# EAGLE library part MCU,PIC32MZ,TQFP-100 (library QuantumOptics)
Microchip PIC32MZ, 32-bit MCU with e'net, USB, FPU, 100-pin pinout such as PIC32MZ1024EFE100-I/PF.
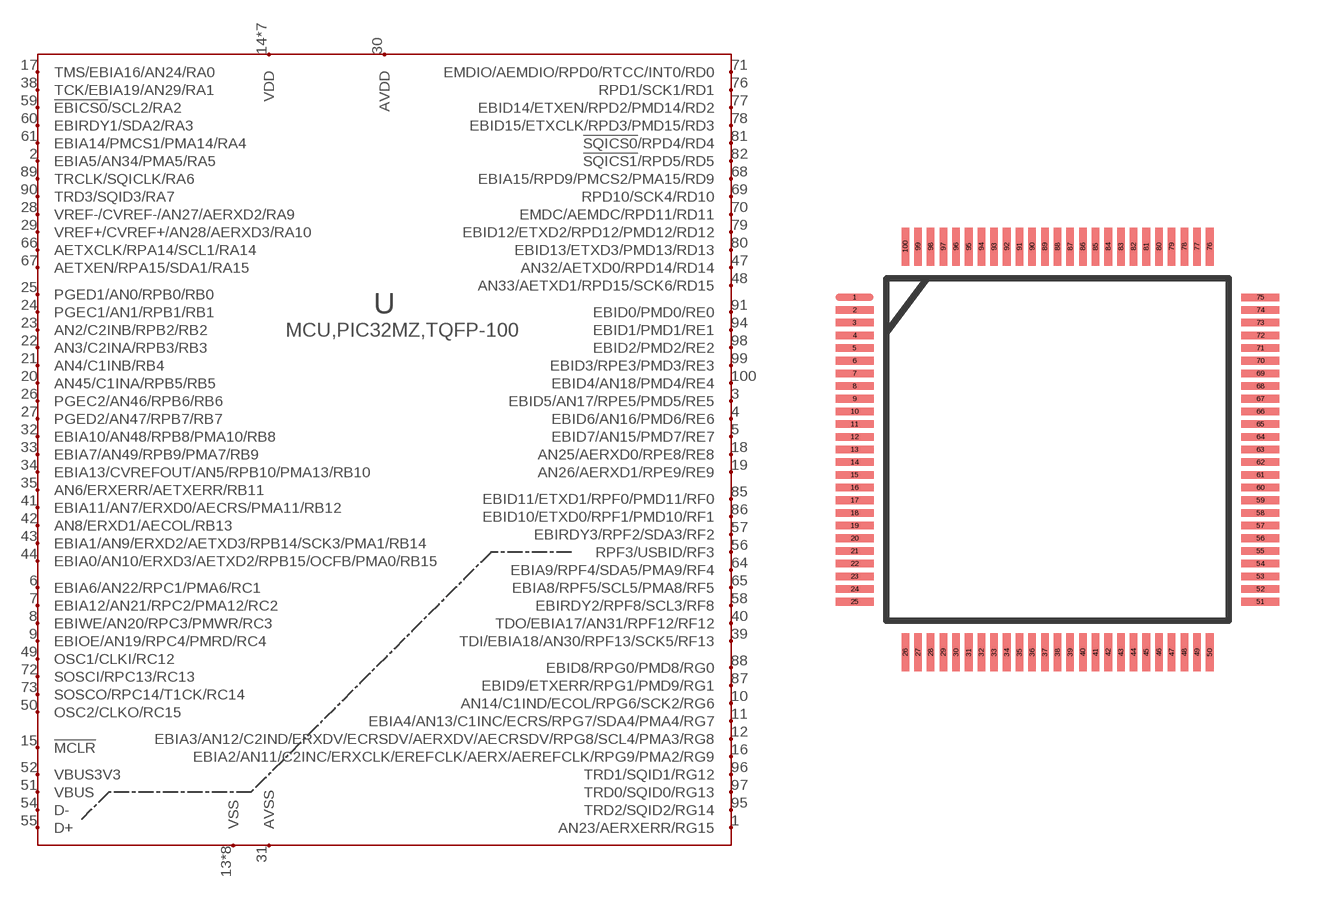
[diagram p226: symbol with the pads of TQFP100; footprint TQFP100]

Designator prefix U

## MCU,PIC32MZ,TQFP-100-TQFP100_14MM  [TQFP100]
1  AN23/AERXERR/RG15
2  EBIA5/AN34/PMA5/RA5
3  EBID5/AN17/RPE5/PMD5/RE5
4  EBID6/AN16/PMD6/RE6
5  EBID7/AN15/PMD7/RE7
6  EBIA6/AN22/RPC1/PMA6/RC1
7  EBIA12/AN21/RPC2/PMA12/RC2
8  EBIWE/AN20/RPC3/PMWR/RC3
9  EBIOE/AN19/RPC4/PMRD/RC4
10  AN14/C1IND/ECOL/RPG6/SCK2/RG6
11  EBIA4/AN13/C1INC/ECRS/RPG7/SDA4/PMA4/RG7
12  EBIA3/AN12/C2IND/ERXDV/ECRSDV/AERXDV/AECRSDV/RPG8/SCL4/PMA3/RG8
13  VSS
14  VDD
15  !MCLR
16  EBIA2/AN11/C2INC/ERXCLK/EREFCLK/AERX/AEREFCLK/RPG9/PMA2/RG9
17  TMS/EBIA16/AN24/RA0
18  AN25/AERXD0/RPE8/RE8
19  AN26/AERXD1/RPE9/RE9
20  AN45/C1INA/RPB5/RB5
21  AN4/C1INB/RB4
22  AN3/C2INA/RPB3/RB3
23  AN2/C2INB/RPB2/RB2
24  PGEC1/AN1/RPB1/RB1
25  PGED1/AN0/RPB0/RB0
26  PGEC2/AN46/RPB6/RB6
27  PGED2/AN47/RPB7/RB7
28  VREF-/CVREF-/AN27/AERXD2/RA9
29  VREF+/CVREF+/AN28/AERXD3/RA10
30  AVDD
31  AVSS
32  EBIA10/AN48/RPB8/PMA10/RB8
33  EBIA7/AN49/RPB9/PMA7/RB9
34  EBIA13/CVREFOUT/AN5/RPB10/PMA13/RB10
35  AN6/ERXERR/AETXERR/RB11
36  VSS
37  VDD
38  TCK/EBIA19/AN29/RA1
39  TDI/EBIA18/AN30/RPF13/SCK5/RF13
40  TDO/EBIA17/AN31/RPF12/RF12
41  EBIA11/AN7/ERXD0/AECRS/PMA11/RB12
42  AN8/ERXD1/AECOL/RB13
43  EBIA1/AN9/ERXD2/AETXD3/RPB14/SCK3/PMA1/RB14
44  EBIA0/AN10/ERXD3/AETXD2/RPB15/OCFB/PMA0/RB15
45  VSS
46  VDD
47  AN32/AETXD0/RPD14/RD14
48  AN33/AETXD1/RPD15/SCK6/RD15
49  OSC1/CLKI/RC12
50  OSC2/CLKO/RC15
51  VBUS
52  VBUS3V3
53  VSS
54  D-
55  D+
56  RPF3/USBID/RF3
57  EBIRDY3/RPF2/SDA3/RF2
58  EBIRDY2/RPF8/SCL3/RF8
59  !EBICS0!/SCL2/RA2
60  EBIRDY1/SDA2/RA3
61  EBIA14/PMCS1/PMA14/RA4
62  VDD
63  VSS
64  EBIA9/RPF4/SDA5/PMA9/RF4
65  EBIA8/RPF5/SCL5/PMA8/RF5
66  AETXCLK/RPA14/SCL1/RA14
67  AETXEN/RPA15/SDA1/RA15
68  EBIA15/RPD9/PMCS2/PMA15/RD9
69  RPD10/SCK4/RD10
70  EMDC/AEMDC/RPD11/RD11
71  EMDIO/AEMDIO/RPD0/RTCC/INT0/RD0
72  SOSCI/RPC13/RC13
73  SOSCO/RPC14/T1CK/RC14
74  VDD
75  VSS
76  RPD1/SCK1/RD1
77  EBID14/ETXEN/RPD2/PMD14/RD2
78  EBID15/ETXCLK/RPD3/PMD15/RD3
79  EBID12/ETXD2/RPD12/PMD12/RD12
80  EBID13/ETXD3/PMD13/RD13
81  !SQICS0!/RPD4/RD4
82  !SQICS1!/RPD5/RD5
83  VDD
84  VSS
85  EBID11/ETXD1/RPF0/PMD11/RF0
86  EBID10/ETXD0/RPF1/PMD10/RF1
87  EBID9/ETXERR/RPG1/PMD9/RG1
88  EBID8/RPG0/PMD8/RG0
89  TRCLK/SQICLK/RA6
90  TRD3/SQID3/RA7
91  EBID0/PMD0/RE0
92  VSS
93  VDD
94  EBID1/PMD1/RE1
95  TRD2/SQID2/RG14
96  TRD1/SQID1/RG12
97  TRD0/SQID0/RG13
98  EBID2/PMD2/RE2
99  EBID3/RPE3/PMD3/RE3
100  EBID4/AN18/PMD4/RE4

## Footprint TQFP100 (pad centres in mm)
TQFP-100, from Altera.
smd 1.5 x 0.3: 1 -8.25,5.75; 2 -8.25,5.25; 3 -8.25,4.75; 4 -8.25,4.25; 5 -8.25,3.75; 6 -8.25,3.25; 7 -8.25,2.75; 8 -8.25,2.25; 9 -8.25,1.75; 10 -8.25,1.25; 11 -8.25,0.75; 12 -8.25,0.25; 13 -8.25,-0.25; 14 -8.25,-0.75; 15 -8.25,-1.25; 16 -8.25,-1.75; 17 -8.25,-2.25; 18 -8.25,-2.75; 19 -8.25,-3.25; 20 -8.25,-3.75; 21 -8.25,-4.25; 22 -8.25,-4.75; 23 -8.25,-5.25; 24 -8.25,-5.75; 25 -8.25,-6.25; 51 7.75,-6.25; 52 7.75,-5.75; 53 7.75,-5.25; 54 7.75,-4.75; 55 7.75,-4.25; 56 7.75,-3.75; 57 7.75,-3.25; 58 7.75,-2.75; 59 7.75,-2.25; 60 7.75,-1.75; 61 7.75,-1.25; 62 7.75,-0.75; 63 7.75,-0.25; 64 7.75,0.25; 65 7.75,0.75; 66 7.75,1.25; 67 7.75,1.75; 68 7.75,2.25; 69 7.75,2.75; 70 7.75,3.25; 71 7.75,3.75; 72 7.75,4.25; 73 7.75,4.75; 74 7.75,5.25; 75 7.75,5.75
smd 0.3 x 1.5: 26 -6.25,-8.25; 27 -5.75,-8.25; 28 -5.25,-8.25; 29 -4.75,-8.25; 30 -4.25,-8.25; 31 -3.75,-8.25; 32 -3.25,-8.25; 33 -2.75,-8.25; 34 -2.25,-8.25; 35 -1.75,-8.25; 36 -1.25,-8.25; 37 -0.75,-8.25; 38 -0.25,-8.25; 39 0.25,-8.25; 40 0.75,-8.25; 41 1.25,-8.25; 42 1.75,-8.25; 43 2.25,-8.25; 44 2.75,-8.25; 45 3.25,-8.25; 46 3.75,-8.25; 47 4.25,-8.25; 48 4.75,-8.25; 49 5.25,-8.25; 50 5.75,-8.25; 76 5.75,7.75; 77 5.25,7.75; 78 4.75,7.75; 79 4.25,7.75; 80 3.75,7.75; 81 3.25,7.75; 82 2.75,7.75; 83 2.25,7.75; 84 1.75,7.75; 85 1.25,7.75; 86 0.75,7.75; 87 0.25,7.75; 88 -0.25,7.75; 89 -0.75,7.75; 90 -1.25,7.75; 91 -1.75,7.75; 92 -2.25,7.75; 93 -2.75,7.75; 94 -3.25,7.75; 95 -3.75,7.75; 96 -4.25,7.75; 97 -4.75,7.75; 98 -5.25,7.75; 99 -5.75,7.75; 100 -6.25,7.75